# Altium footprint library PcbLib1.PcbLib: 19 footprints (part 2 of 2)
Each footprint in its own frame and in the unit in brackets; x right, y up, seen from the top. Pads: shape width x height; smd on the part's side, far side on the other; paste and mask are expansions set on the pad; w line width, h text height; cw(c..) or ccw(c..) is an arc to the next point about the centre after c.
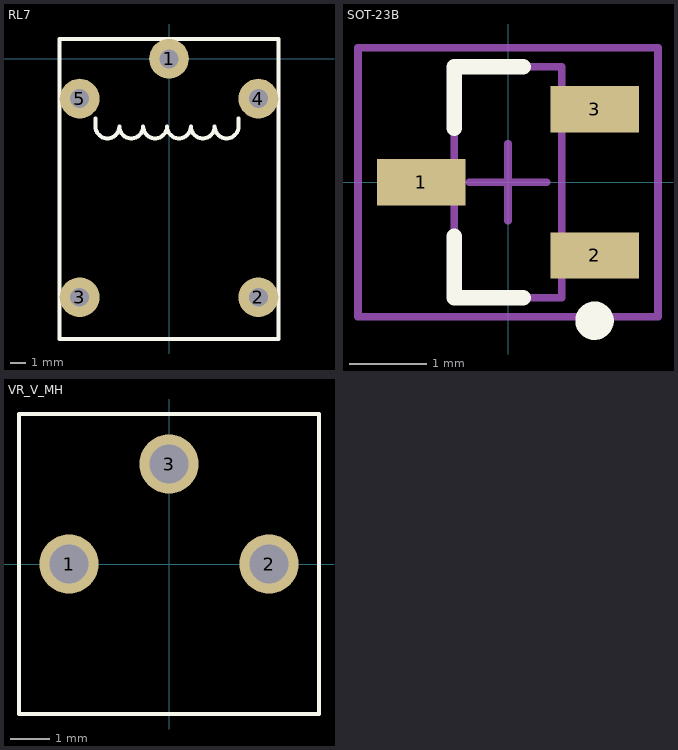
[diagram p1: the footprints below, top view; thin cyan lines are the x and y axes]

## RL7 [mm]
pads (5):
  round 2.54 hole 1.2: 1(0,0) 2(5.715,-15.24) 3(-5.715,-15.24) 4(5.715,-2.54) 5(-5.715,-2.54)
Top Overlay:
  lines w0.254: -6.985,1.27 -6.985,-17.907 6.985,-17.907 6.985,1.27 -6.858,1.27 ; -4.699,-3.81 -4.699,-4.318 ccw(c-3.937,-4.318) -3.175,-4.318 ccw(c-2.413,-4.318) -1.651,-4.318 ccw(c-0.889,-4.318) -0.127,-4.318 ccw(c0.635,-4.318) 1.397,-4.318 ccw(c2.159,-4.318) 2.921,-4.318 ccw(c3.683,-4.318) 4.445,-4.318 4.445,-3.81

## SOT-23B [mm] "SOT23, 3-Leads, Body 2.9x1.3mm, Pitch 0.95mm, Lead Span 2.4mm, IPC Medium Density"
height 1.14
pads (3):
  rect 1.15x0.6 smd: 1(-1.125,0) 2(1.125,-0.95) 3(1.125,0.95)
Top Overlay:
  circle w0.25: c1.125,-1.8 r0.125
  lines w0.2: -0.7,-0.7 -0.7,-1.5 0.2,-1.5 ; -0.7,0.7 -0.7,1.5 0.2,1.5
Mechanical 13:
  lines w0.1: -0.7,-1.5 -0.7,1.5 0.7,1.5 0.7,-1.5 -0.7,-1.5
Mechanical 15:
  lines w0.1: -0.5,0 0.5,0 ; 0,-0.5 0,0.5 ; -1.95,-1.75 -1.95,1.75 1.95,1.75 1.95,-1.75 -1.95,-1.75
3D body: height 1.14, standoff 0, extent -0.7,-1.5 0.7,1.5

## VR_V_MH [mm]
pads (3):
  round 1.5 hole 1 mask+0.01: 1(-2.54,0) 2(2.54,0) 3(0,2.54)
Top Overlay:
  lines w0.1: -3.81,-3.81 3.81,-3.81 3.81,3.81 -3.81,3.81 -3.81,-3.81